# Altium footprint library ARDUINO_ARDUINO_UNO_REV3.PcbLib: 1 footprints
Each footprint in its own frame and in the unit in brackets; x right, y up, seen from the top. Pads: shape width x height; smd on the part's side, far side on the other; paste and mask are expansions set on the pad; w line width, h text height; cw(c..) or ccw(c..) is an arc to the next point about the centre after c.
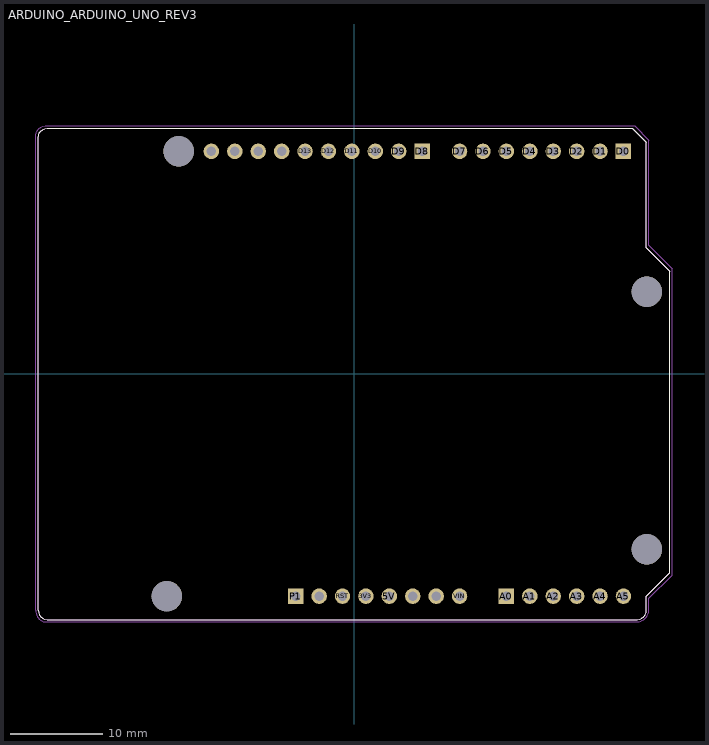
[diagram p0: the footprint, top view; thin cyan lines are the x and y axes]

## ARDUINO_ARDUINO_UNO_REV3 [mil]
pads (36):
  round 66 hole 40: 3V3(50.89,-949.18) 5V(150.89,-949.18) A1(750.89,-949.18) A2(850.89,-949.18) A3(950.89,-949.18) A4(1050.89,-949.18) A4_SDA(-509.11,950.82) A5(1150.89,-949.18) A5_SCL(-609.11,950.82) AREF(-409.11,950.82) D1(1050.89,950.82) D2(950.89,950.82) D3(850.89,950.82) D4(750.89,950.82) D5(650.89,950.82) D6(550.89,950.82) D7(450.89,950.82) D9(190.89,950.82) D10(90.89,950.82) D11(-9.11,950.82) D12(-109.11,950.82) D13(-209.11,950.82) GND_1(350.89,-949.18) GND_2(250.89,-949.18) GND_3(-309.11,950.82) IOREF(-149.11,-949.18) RST(-49.11,-949.18) VIN(450.89,-949.18)
  rect 66x66 / inner round 66 / far side rect 66x66 hole 40: A0(650.89,-949.18) D0(1150.89,950.82) D8(290.89,950.82) P1(-249.11,-949.18)
  round 129.92 hole 129.92 unplated: ""(-799.11,-949.18) ""(-749.11,950.82) ""(1250.89,-749.18) ""(1250.89,350.81)
Top Overlay:
  lines w5: -1349.11,-1010.09 -1349.11,1009.2 -1347.44,1020.03 -1344.11,1029.19 -1337.44,1037.52 -1329.11,1043.35 -1319.95,1047.52 -1309.95,1049.18 1189.16,1049.18 1249.14,989.2 1249.14,539.37 1349.11,439.4 1349.11,-849.31 1249.14,-949.28 1249.14,-1010.09 1247.48,-1020.08 1244.15,-1029.25 1237.48,-1037.58 1229.15,-1044.24 1219.98,-1047.57 1209.99,-1049.24 -1309.95,-1049.24 -1319.95,-1047.57 -1329.11,-1044.24 -1337.44,-1037.58 -1344.11,-1029.25 -1347.44,-1020.08 -1349.11,-1010.09
Mechanical 13:
  lines w5: -1349.11,-1010.09 -1349.11,1009.2 -1347.44,1020.03 -1344.11,1029.19 -1337.44,1037.52 -1329.11,1043.35 -1319.95,1047.52 -1309.95,1049.18 1189.16,1049.18 1249.14,989.2 1249.14,539.37 1349.11,439.4 1349.11,-849.31 1249.14,-949.28 1249.14,-1010.09 1247.48,-1020.08 1244.15,-1029.25 1237.48,-1037.58 1229.15,-1044.24 1219.98,-1047.57 1209.99,-1049.24 -1309.95,-1049.24 -1319.95,-1047.57 -1329.11,-1044.24 -1337.44,-1037.58 -1344.11,-1029.25 -1347.44,-1020.08 -1349.11,-1010.09
Mechanical 15:
  lines w1.97: -1358.95,-1010.09 -1358.95,-1009.82 -1358.95,1019.04 -1357.28,1029.87 -1353.95,1039.04 -1347.29,1047.37 -1338.96,1053.2 -1329.79,1057.36 -1319.8,1059.03 1199,1059.03 1258.98,999.05 1258.98,549.21 1358.95,449.24 1358.95,-859.15 1258.98,-959.12 1258.98,-1010.09 ; -1358.94,-1009.69 ccw(c-1312.41,-1012.94) -1319.71,-1059.01 ; -1319.8,-1059.08 1209.99,-1059.08 ; 1210.4,-1059.01 ccw(c1207.7,-1007.57) 1259.14,-1010.26
3D body "step_temp.STEP": height 467.33, standoff -117.72, extent -1605.52,-1050 1350,1050